# EAGLE library part 171010601 (library WPME-VDRM)
MagI³C-VDRM Variable Step Down Regulator Module Characteristics Low conducted and radiated EMI (compliant to EN55022 class B / CISPR-22) TO263-7EP Leaded package for easy manufacturing and prototyping Simple layout Wide input voltage range for input transient capability Support ambient temperatures up to + 105 °C 2 solder cycles supported QFN Low profile package Simple application circuit (only 4 external components required) Optional multiple features (adj.frequency, adj.softstart, power good, sequencing, tracking, synchronization to external clock, adjustable undervoltage lockout) Wide input voltage range QFN41 type 3 solder cycles supported Applications Point-of-Load DC-DC applications from 24V, 18V, 15V, 12V, 9V, 5V industrial rails Industrial, Test & Measurement, Medical applications System power supplies I/O interface power supply DSPs, FPGAs, MCUs and MPUs supply High density distributed power systems Telecommunication applications <https://www.we-online.com/components/media/o33388v209%20Family-MagicVDRM-171010601-171021501.jpg> Details see: www.we-online.com/en/components/products/MAGIC-VDRM <www.we-online.com/catalog/MAGIC-VDRM/?utm_source=eagle_model&utm_medium=description_link&utm_campaign=eisos_eagle> Updated by Ella 2025-04-22 2025(C) Würth Elektronik
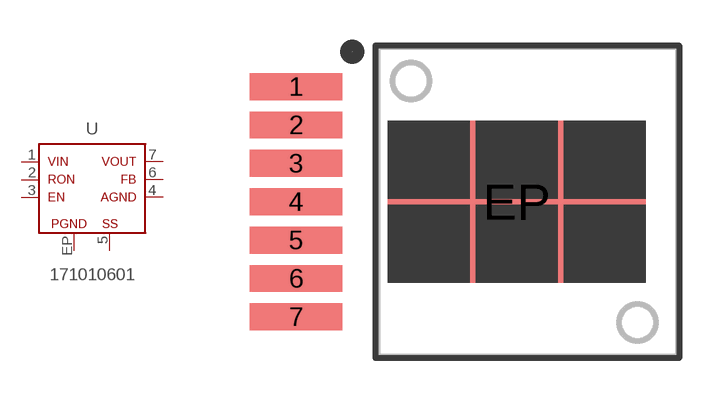
[diagram p7: symbol with the pads of WPME-VDRM_TO263-7EP; footprint WPME-VDRM_TO263-7EP]

Designator prefix U

## 171010601 (DATASHEET-URL: https://www.we-online.com/redexpert/spec/171010601?ae; HEIGHT: 4.57mm; I-OUTPUT: 1A; LENGTH: 9.85mm; MOUNT: SMT; PART-NUMBER: 171010601; SIZE: TO263-7EP; V-INPUT: 6 - 42Vin; V-OUTPUT: 0.8 - 6Vout; VALUE: 6 - 42Vin, 0.8 - 6Vout, 1A; WIDTH: 10.16mm)  [WPME-VDRM_TO263-7EP]
1  VIN  pwr
2  RON  in
3  EN  in
4  AGND  sup
5  SS  in
6  FB  in
7  VOUT  pwr
EP  PGND  pwr

## Footprint WPME-VDRM_TO263-7EP (pad centres in mm)
MagI³C-VDRM Variable Step Down Regulator Module Size : TO263-7EP
smd 3.06 x 0.89: 1 -7.305,3.81; 2 -7.305,2.54; 3 -7.305,1.27; 4 -7.305,0; 5 -7.305,-1.27; 6 -7.305,-2.54; 7 -7.305,-3.81
smd 8.54 x 5.35: EP 0,0